# Altium footprint library MDBT42Q_PCBLIB_210702.PcbLib: 1 footprints
Each footprint in its own frame and in the unit in brackets; x right, y up, seen from the top. Pads: shape width x height; smd on the part's side, far side on the other; paste and mask are expansions set on the pad; w line width, h text height; cw(c..) or ccw(c..) is an arc to the next point about the centre after c.
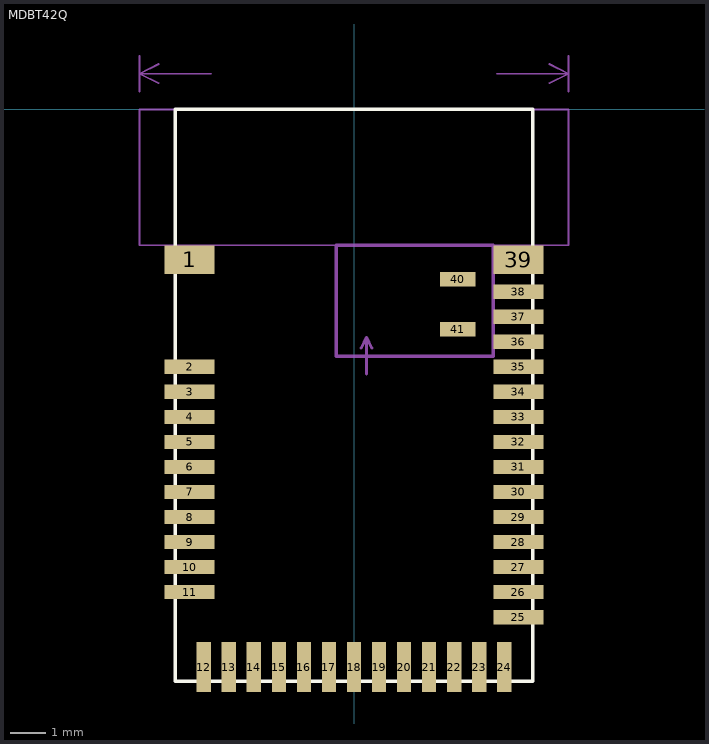
[diagram p0: the footprint, top view; thin cyan lines are the x and y axes]

## MDBT42Q [mm]
pads (41):
  rect 1.4x0.8 smd mask+0: 1(-4.6,-4.2) 39(4.6,-4.2)
  rect 1.4x0.4 smd mask+0: 2(-4.6,-7.2) 3(-4.6,-7.9) 4(-4.6,-8.6) 5(-4.6,-9.3) 6(-4.6,-10) 7(-4.6,-10.7) 8(-4.6,-11.4) 9(-4.6,-12.1) 10(-4.6,-12.8) 11(-4.6,-13.5) 25(4.6,-14.2) 26(4.6,-13.5) 27(4.6,-12.8) 28(4.6,-12.1) 29(4.6,-11.4) 30(4.6,-10.7) 31(4.6,-10) 32(4.6,-9.3) 33(4.6,-8.6) 34(4.6,-7.9) 35(4.6,-7.2) 36(4.6,-6.5) 37(4.6,-5.8) 38(4.6,-5.1)
  rect 0.4x1.4 smd mask+0: 12(-4.2,-15.6) 13(-3.5,-15.6) 14(-2.8,-15.6) 15(-2.1,-15.6) 16(-1.4,-15.6) 17(-0.7,-15.6) 18(0,-15.6) 19(0.7,-15.6) 20(1.4,-15.6) 21(2.1,-15.6) 22(2.8,-15.6) 23(3.5,-15.6) 24(4.2,-15.6)
  rect 1x0.4 smd mask+0: 40(2.9,-4.75) 41(2.9,-6.15)
TopOverlay:
  lines w0.1: -5,-16 -5,0 0,0 5,0 5,-16 -5,-16
Mechanical2:
  lines w0.05: -6,0.5 -6,1.5 ; -5.461,0.73 -6,1 ; -5.461,1.27 -6,1 ; -4,1 -6,1 ; 4,1 6,1 ; 5.461,0.73 6,1 ; 5.461,1.27 6,1 ; 6,0.5 6,1.5 ; -6,-3.8 6,-3.8 6,0 -6,0 -6,-3.8
  text "No ground pad" at -2.615,-1.89 h0.45
  text "as wide as possible" at -3.683,0.8 h0.55
Mechanical3:
  lines w0.08: 0.2,-6.675 0.35,-6.375 ; 0.35,-7.4 0.35,-6.375 ; 0.5,-6.675 0.35,-6.375
  lines w0.1: -0.5,-6.9 3.9,-6.9 3.9,-3.8 -0.5,-3.8 -0.5,-6.9
  text "Toplayer no ground pad" at -2.8,-7.775 h0.3